# EAGLE library part J-LINK_6-PIN_ADAPTER (library talons-connectors)
J-Link 6-pin Adapter See https://www.segger.com/jlink-6-pin-adapter.html
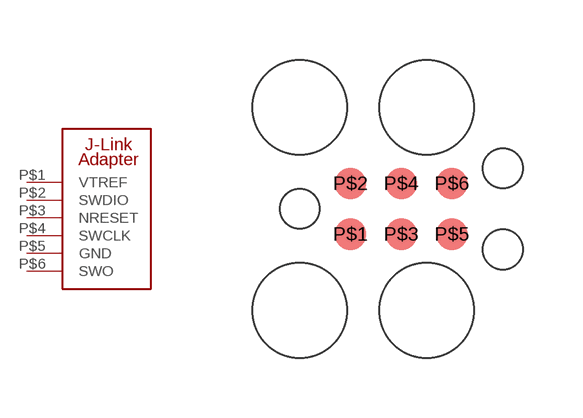
[diagram p1: symbol with the pads of J-LINK_6-PIN_ADAPTER; footprint J-LINK_6-PIN_ADAPTER]

Designator prefix -

## J-LINK_6-PIN_ADAPTER  [J-LINK_6-PIN_ADAPTER]
P$1  VTREF
P$2  SWDIO
P$3  NRESET
P$4  SWCLK
P$5  GND  pwr
P$6  SWO

## Footprint J-LINK_6-PIN_ADAPTER (pad centres in mm)
smd 0.787 x 0.787: P$1 -1.27,-0.635; P$2 -1.27,0.635; P$3 0,-0.635; P$4 0,0.635; P$5 1.27,-0.635; P$6 1.27,0.635
hole 2.375 at -2.54,-2.54
hole 2.375 at -2.54,2.54
hole 2.375 at 0.635,-2.54
hole 2.375 at 0.635,2.54
hole 0.991 at -2.54,0
hole 0.991 at 2.54,1.016
hole 0.991 at 2.54,-1.016